# Altium schematic symbol library LTST-C190GKT.SchLib: 1 symbol
Pins are listed as number, name and electrical type; pins without a type are passive.

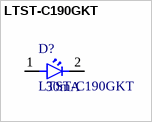
[diagram p0: symbol LTST-C190GKT]

## LTST-C190GKT
designator D?  Max Current: 30mA
LED GREEN CLEAR  CHIP SMD; MFR: Lite-On Inc.; Max Temp: 85C; Min Temp: -55C; Forward Voltage: 2.1V; PN: LTST-C190GKT; Color: GREEN; Package: LTST-C19X; Footprint: LTST-C19X; ComponentLink1Description: Datasheet; ComponentLink1URL: https://optoelectronics.liteon.com/upload/download/DS22-2000-223/LTST-C191KRKT.PDF; Supplier 1: Digi-Key; Supplier Part Number 1: 160-1183-1-ND
footprint LTST-C19X
footprint LTST-C19X
pins: 1, 2